# EAGLE library part MOTOR_N20_ENCODER (library Motor N20)
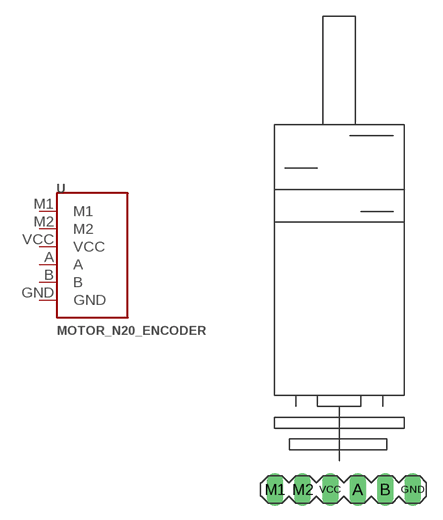
[diagram p0: symbol with the pads of MOTOR_N20_ENCODER; footprint MOTOR_N20_ENCODER]

Designator prefix -

## MOTOR_N20_ENCODER  [MOTOR_N20_ENCODER]
A  A
B  B
GND  GND
M1  M1
M2  M2
VCC  VCC

## Footprint MOTOR_N20_ENCODER (pad centres in mm)
drill 1.016 long: A 7.7,-8.66; B 10.24,-8.66; GND 12.78,-8.66; M1 0.08,-8.66; M2 2.62,-8.66; VCC 5.16,-8.66